# Altium footprint library uln2003_smd.PcbLib: 1 footprints
Each footprint in its own frame and in the unit in brackets; x right, y up, seen from the top. Pads: shape width x height; smd on the part's side, far side on the other; paste and mask are expansions set on the pad; w line width, h text height; cw(c..) or ccw(c..) is an arc to the next point about the centre after c.
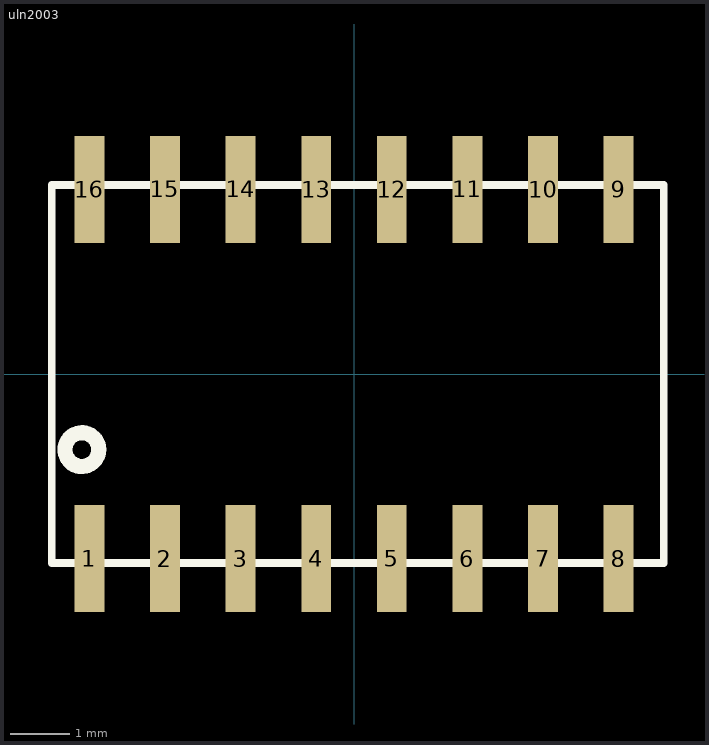
[diagram p0: the footprint, top view; thin cyan lines are the x and y axes]

## uln2003 [mm]
pads (16):
  rect 0.5x1.8 smd: 1(-4.445,-3.1) 2(-3.175,-3.1) 3(-1.905,-3.1) 4(-0.635,-3.1) 5(0.635,-3.1) 6(1.905,-3.1) 7(3.175,-3.1) 8(4.445,-3.1) 9(4.445,3.1) 10(3.175,3.1) 11(1.905,3.1) 12(0.635,3.1) 13(-0.635,3.1) 14(-1.905,3.1) 15(-3.175,3.1) 16(-4.445,3.1)
Top Overlay:
  circle w0.254: c-4.572,-1.27 r0.284
  lines w0.127: -5.08,-3.175 5.207,-3.175 5.207,3.175 -5.08,3.175 -5.08,-3.175